# Altium footprint library 多功能数字电表.PcbLib: 17 footprints (part 2 of 2)
Each footprint in its own frame and in the unit in brackets; x right, y up, seen from the top. Pads: shape width x height; smd on the part's side, far side on the other; paste and mask are expansions set on the pad; w line width, h text height; cw(c..) or ccw(c..) is an arc to the next point about the centre after c.
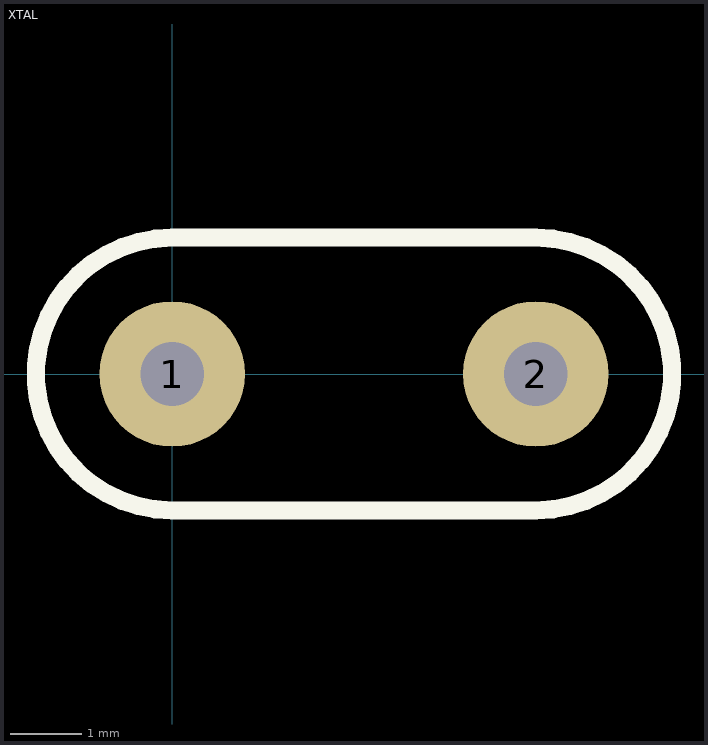
[diagram p1: the footprint, top view; thin cyan lines are the x and y axes]

## XTAL [mil]
pads (2):
  round 80 hole 35: 1(0,0) 2(200,0)
Top Overlay:
  lines w10: 0,-75 cw(c0,0) 0,75 200,75 cw(c200,0) 200,-75 0,-75